# EAGLE library part DRV8837 (library ic-power)
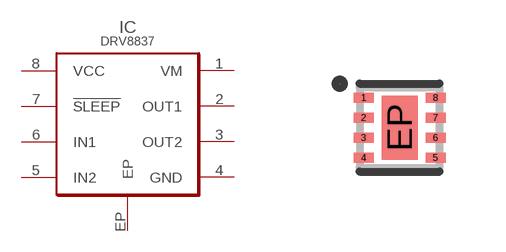
[diagram p8: symbol with the pads of WSON8; footprint WSON8]

Designator prefix IC

## DRV8837DSG  [WSON8]
1  VM  pas
2  OUT1  pas
3  OUT2  pas
4  GND  pas
5  IN2  in
6  IN1  in
7  !SLEEP  in
8  VCC  pas
EP  EP  pas

## Footprint WSON8 (pad centres in mm)
smd 0.5 x 0.25: 1 -0.9,0.75; 2 -0.9,0.25; 3 -0.9,-0.25; 4 -0.9,-0.75; 5 0.9,-0.75; 6 0.9,-0.25; 7 0.9,0.25; 8 0.9,0.75
smd 0.9 x 1.6: EP 0,0